# EAGLE library part IQS263B (library glasses)
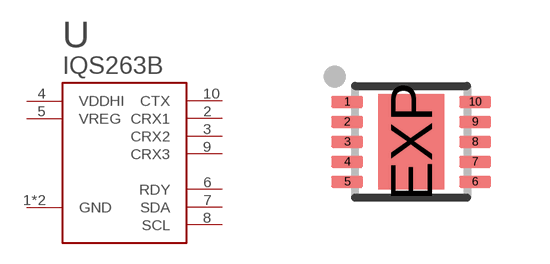
[diagram p4: symbol with the pads of DFN10-3X3; footprint DFN10-3X3]

Designator prefix U

## IQS263BDFN10  [DFN10-3X3]
1  GND
2  CRX1
3  CRX2
4  VDDHI
5  VREG
6  RDY
7  SDA
8  SCL
9  CRX3
10  CTX
EXP  GND

## Footprint DFN10-3X3 (pad centres in mm)
DD Package 10-Lead Plastic DFN (3mm × 3mm) (Reference LTC DWG # 05-08-1669) Source: http://www.linear.com .. 4062fa.pdf
smd 0.8 x 0.3: 1 -1.6,1; 2 -1.6,0.5; 3 -1.6,0; 4 -1.6,-0.5; 5 -1.6,-1; 6 1.6,-1; 7 1.6,-0.5; 8 1.6,0; 9 1.6,0.5; 10 1.6,1
smd 1.65 x 2.38: EXP 0,0